# Altium footprint library BH_2032.PcbLib: 1 footprints
Each footprint in its own frame and in the unit in brackets; x right, y up, seen from the top. Pads: shape width x height; smd on the part's side, far side on the other; paste and mask are expansions set on the pad; w line width, h text height; cw(c..) or ccw(c..) is an arc to the next point about the centre after c.
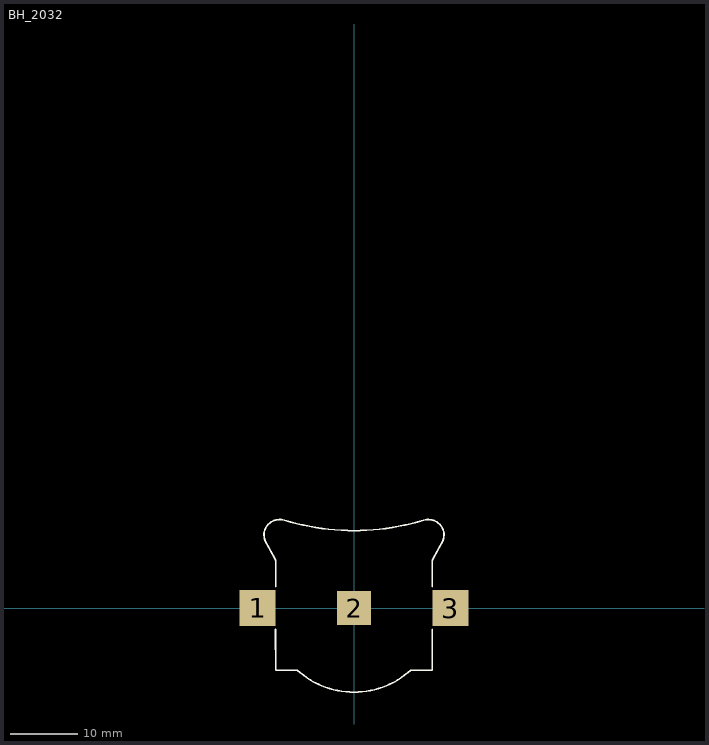
[diagram p0: the footprint, top view; thin cyan lines are the x and y axes]

## BH_2032 [mm]
pads (3):
  rect 5.3x5.3 smd: 1(-14.2,0) 3(14.2,0)
  rect 5x5 smd: 2(0,0)
Top Overlay:
  lines w0.254: -13.081,9.906 -11.55,7.05 -11.55,3.175 ; -12.9,9.51 cw(c-10.97,10.761) -10.251,12.946 ; -11.557,-3.175 -11.55,-9.17 -8.366,-9.17 ; -10.248,12.954 ccw(c0,46.42) 0.008,11.42 ; -8.366,-9.153 ccw(c0,0) 8.366,-9.153 ; -0.008,11.42 ccw(c0,46.42) 10.248,12.954 ; 8.366,-9.17 11.55,-9.17 11.55,-3.175 ; 10.251,12.946 cw(c10.97,10.761) 12.9,9.51 ; 11.55,3.175 11.55,7.05 13.081,9.906
3D body: height 3.68, standoff 0.32, extent -13.081,7 13.349,13.091
3D body: height 3.68, standoff 0.32, extent -13.349,8.5 -8.767,13.09
3D body: height 3.68, standoff 0.32, extent 8.767,8.5 13.349,13.091
3D body: height 3.68, standoff 0.32, extent -11.55,-7.95 11.55,11.55
3D body: height 3.68, standoff 0.32, extent -11.459,-11.527 11.55,11.527
3D body: height 0.26, standoff 0, extent -16.74,-2.54 -11.66,2.54
3D body: height 4.25, standoff 1.16, extent -11.66,-9 -11.4,7
3D body: height 1.16, standoff 0, extent -11.66,-2.54 -11.4,2.54
3D body: height 4.25, standoff 4, extent -11.66,-9 11.66,12.065
3D body: height 1.16, standoff 0, extent 11.4,-2.54 11.66,2.54
3D body: height 4.25, standoff 1.16, extent 11.4,-9 11.66,7
3D body: height 0.26, standoff 0, extent 11.66,-2.54 16.74,2.54
3D body: height 3.77, standoff 0.63, extent -9.921,-9.98 10,9.981
3D body: height 0.63, standoff 0, extent -8.433,-8.483 8.5,8.483